# Altium footprint library 532614011.PcbLib: 3 footprints
Each footprint in its own frame and in the unit in brackets; x right, y up, seen from the top. Pads: shape width x height; smd on the part's side, far side on the other; paste and mask are expansions set on the pad; w line width, h text height; cw(c..) or ccw(c..) is an arc to the next point about the centre after c.
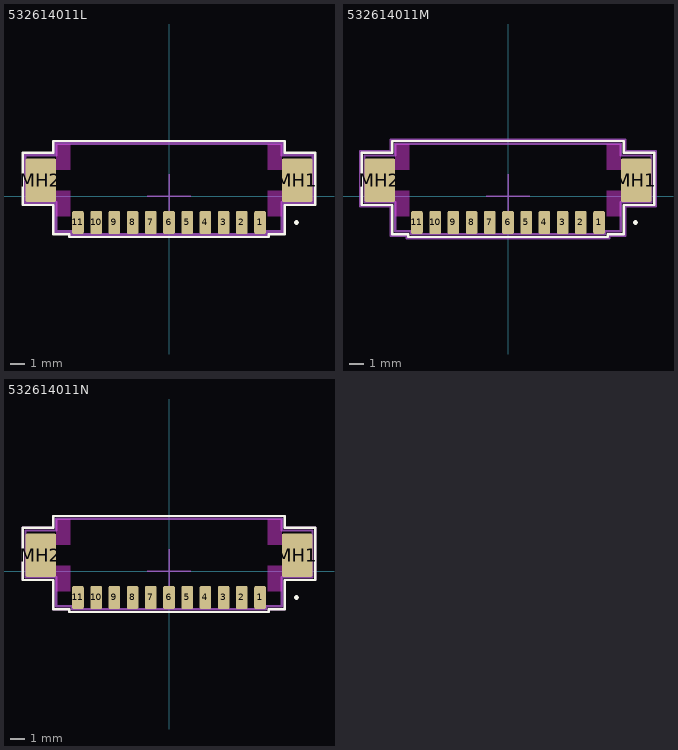
[diagram p0: the footprints below, top view; thin cyan lines are the x and y axes]

## 532614011L [mm] "Molex PicoBlade 11-Pin Right-Angle Connector with Gold Coating"
height 3.4
pads (13):
  rrect31% 0.8x1.6 smd: 1(6.25,-1.8) 2(5,-1.8) 3(3.75,-1.8) 4(2.5,-1.8) 5(1.25,-1.8) 6(0,-1.8) 7(-1.25,-1.8) 8(-2.5,-1.8) 9(-3.75,-1.8) 10(-5,-1.8) 11(-6.25,-1.8)
  rrect12% 2.1x3 smd: MH1(8.8,1.1) MH2(-8.8,1.1)
Top Layer keep-out:
  rectangle: -7.75,3.6 -6.75,1.8
  rectangle: 7.75,3.6 6.75,1.8
  rectangle: -7.75,-1.4 -6.75,0.4
  rectangle: 7.75,-1.4 6.75,0.4
Top Overlay:
  circle w0.16: c8.75,-1.8 r0.08
  lines w0.16: -10.05,-0.6 -7.95,-0.6 -7.95,-2.6 -6.85,-2.6 -6.85,-2.8 6.85,-2.8 6.85,-2.6 7.95,-2.6 7.95,-0.6 10.05,-0.6 10.05,3 7.95,3 7.95,3.8 -7.95,3.8 -7.95,3 -10.05,3 -10.05,-0.6
Top Component Center:
  lines w0.1: -1.5,0 1.5,0 ; 0,-1.5 0,1.5
Top Courtyard:
  lines w0.16: -9.95,-0.5 -7.85,-0.5 -7.85,-2.5 -6.75,-2.5 -6.75,-2.7 6.75,-2.7 6.75,-2.5 7.85,-2.5 7.85,-0.5 9.95,-0.5 9.95,2.9 7.85,2.9 7.85,3.7 -7.85,3.7 -7.85,2.9 -9.95,2.9 -9.95,-0.5
Top Assembly:
  lines w0.16: -9.85,-0.4 -7.75,-0.4 -7.75,-2.4 -6.65,-2.4 -6.65,-2.6 6.65,-2.6 6.65,-2.4 7.75,-2.4 7.75,-0.4 9.85,-0.4 9.85,2.8 7.75,2.8 7.75,3.6 -7.75,3.6 -7.75,2.8 -9.85,2.8 -9.85,-0.4
3D body "532614011L.STEP": height 3.4, standoff 0, extent -9.45,-2 9.45,3.2

## 532614011M [mm] "Molex PicoBlade 11-Pin Right-Angle Connector with Gold Coating"
height 3.4
pads (13):
  rrect31% 0.8x1.6 smd: 1(6.25,-1.8) 2(5,-1.8) 3(3.75,-1.8) 4(2.5,-1.8) 5(1.25,-1.8) 6(0,-1.8) 7(-1.25,-1.8) 8(-2.5,-1.8) 9(-3.75,-1.8) 10(-5,-1.8) 11(-6.25,-1.8)
  rrect12% 2.1x3 smd: MH1(8.8,1.1) MH2(-8.8,1.1)
Top Layer keep-out:
  rectangle: -7.75,3.6 -6.75,1.8
  rectangle: 7.75,3.6 6.75,1.8
  rectangle: -7.75,-1.4 -6.75,0.4
  rectangle: 7.75,-1.4 6.75,0.4
Top Overlay:
  circle w0.16: c8.75,-1.8 r0.08
  lines w0.16: -10.05,-0.6 -7.95,-0.6 -7.95,-2.6 -6.85,-2.6 -6.85,-2.8 6.85,-2.8 6.85,-2.6 7.95,-2.6 7.95,-0.6 10.05,-0.6 10.05,3 7.95,3 7.95,3.8 -7.95,3.8 -7.95,3 -10.05,3 -10.05,-0.6
Top Component Center:
  lines w0.1: -1.5,0 1.5,0 ; 0,-1.5 0,1.5
Top Courtyard:
  lines w0.16: -10.15,-0.7 -8.05,-0.7 -8.05,-2.7 -6.95,-2.7 -6.95,-2.9 6.95,-2.9 6.95,-2.7 8.05,-2.7 8.05,-0.7 10.15,-0.7 10.15,3.1 8.05,3.1 8.05,3.9 -8.05,3.9 -8.05,3.1 -10.15,3.1 -10.15,-0.7
Top Assembly:
  lines w0.16: -9.85,-0.4 -7.75,-0.4 -7.75,-2.4 -6.65,-2.4 -6.65,-2.6 6.65,-2.6 6.65,-2.4 7.75,-2.4 7.75,-0.4 9.85,-0.4 9.85,2.8 7.75,2.8 7.75,3.6 -7.75,3.6 -7.75,2.8 -9.85,2.8 -9.85,-0.4
3D body "532614011M.STEP": height 3.4, standoff 0, extent -9.45,-2 9.45,3.2

## 532614011N [mm] "Molex PicoBlade 11-Pin Right-Angle Connector with Gold Coating"
height 3.4
pads (13):
  rrect31% 0.8x1.6 smd: 1(6.25,-1.8) 2(5,-1.8) 3(3.75,-1.8) 4(2.5,-1.8) 5(1.25,-1.8) 6(0,-1.8) 7(-1.25,-1.8) 8(-2.5,-1.8) 9(-3.75,-1.8) 10(-5,-1.8) 11(-6.25,-1.8)
  rrect12% 2.1x3 smd: MH1(8.8,1.1) MH2(-8.8,1.1)
Top Layer keep-out:
  rectangle: -7.75,3.6 -6.75,1.8
  rectangle: 7.75,3.6 6.75,1.8
  rectangle: -7.75,-1.4 -6.75,0.4
  rectangle: 7.75,-1.4 6.75,0.4
Top Overlay:
  circle w0.16: c8.75,-1.8 r0.08
  lines w0.16: -10.05,-0.6 -7.95,-0.6 -7.95,-2.6 -6.85,-2.6 -6.85,-2.8 6.85,-2.8 6.85,-2.6 7.95,-2.6 7.95,-0.6 10.05,-0.6 10.05,3 7.95,3 7.95,3.8 -7.95,3.8 -7.95,3 -10.05,3 -10.05,-0.6
Top Component Center:
  lines w0.1: -1.5,0 1.5,0 ; 0,-1.5 0,1.5
Top Courtyard:
  lines w0.16: -10.05,-0.6 -7.95,-0.6 -7.95,-2.6 -6.85,-2.6 -6.85,-2.8 6.85,-2.8 6.85,-2.6 7.95,-2.6 7.95,-0.6 10.05,-0.6 10.05,3 7.95,3 7.95,3.8 -7.95,3.8 -7.95,3 -10.05,3 -10.05,-0.6
Top Assembly:
  lines w0.16: -9.85,-0.4 -7.75,-0.4 -7.75,-2.4 -6.65,-2.4 -6.65,-2.6 6.65,-2.6 6.65,-2.4 7.75,-2.4 7.75,-0.4 9.85,-0.4 9.85,2.8 7.75,2.8 7.75,3.6 -7.75,3.6 -7.75,2.8 -9.85,2.8 -9.85,-0.4
3D body "532614011N.STEP": height 3.4, standoff 0, extent -9.45,-2 9.45,3.2